# EAGLE library part PS25-6 (library ct-bot)
PIN-HEADER
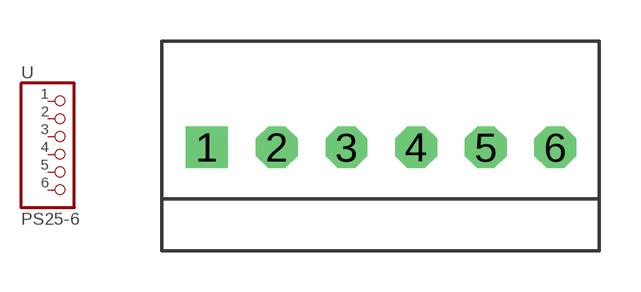
[diagram p16: symbol with the pads of TS_PS25_6; footprint TS_PS25_6]

Designator prefix -

## PS25-6  [TS_PS25_6]
1  1  pas
2  2  pas
3  3  pas
4  4  pas
5  5  pas
6  6  pas

## Footprint TS_PS25_6 (pad centres in mm)
PIN HEADER
drill 1.016 square: 1 -11.445,0.001
drill 1.016 octagon: 2 -8.894,0.001; 3 -6.354,0.001; 4 -3.814,0.001; 5 -1.274,0.001; 6 1.266,0.001